# EAGLE library part MC10ELT21DG (library ON Semiconductor_By_element14_Batch_1)
5 V Differential PECL to TTL Translator
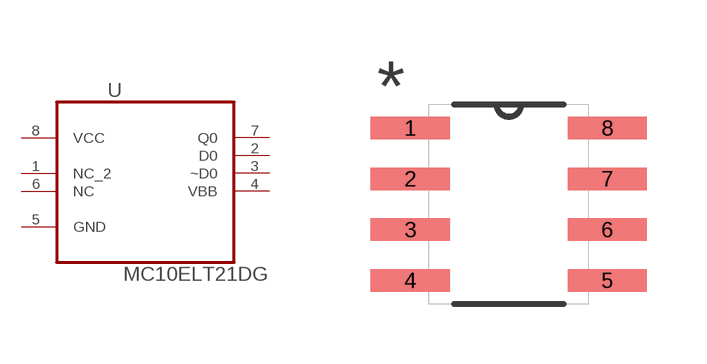
[diagram p166: symbol with the pads of SOIC127P600X175-8N; footprint SOIC127P600X175-8N]

Designator prefix U

## MC10ELT21DG (MPN: MC10ELT21DG; OC_FARNELL: 1607879; OC_NEWARK: 98H0610; PACKAGE: SOIC-8; SUPPLIER: Onsemiconductor)  [SOIC127P600X175-8N]
1  NC_2  nc
2  D0  out
3  ~D0  out
4  VBB  out
5  GND  pas
6  NC  nc
7  Q0  out
8  VCC  pwr

## Footprint SOIC127P600X175-8N (pad centres in mm)
smd 1.981 x 0.559: 1 -2.464,1.905; 2 -2.464,0.635; 3 -2.464,-0.635; 4 -2.464,-1.905; 5 2.464,-1.905; 6 2.464,-0.635; 7 2.464,0.635; 8 2.464,1.905